# Altium footprint library CAS143-47.PcbLib: 1 footprints
Each footprint in its own frame and in the unit in brackets; x right, y up, seen from the top. Pads: shape width x height; smd on the part's side, far side on the other; paste and mask are expansions set on the pad; w line width, h text height; cw(c..) or ccw(c..) is an arc to the next point about the centre after c.
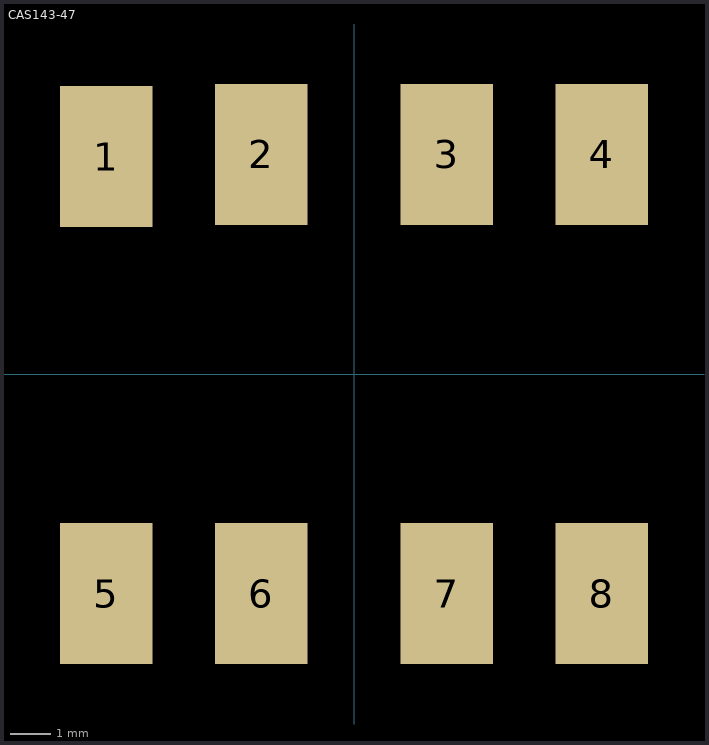
[diagram p0: the footprint, top view; thin cyan lines are the x and y axes]

## CAS143-47 [mm]
pads (8):
  rect 2.3x3.5 smd: 1(-6.15,5.4) 2(-2.3,5.45) 3(2.3,5.45) 4(6.15,5.45) 5(-6.15,-5.45) 6(-2.3,-5.45) 7(2.3,-5.45) 8(6.15,-5.45)
3D body: height 4, standoff 0.01, extent -7.2,-7.1 7.2,7